# Altium footprint library PMIC.PcbLib: 52 footprints (part 3 of 4)
Each footprint in its own frame and in the unit in brackets; x right, y up, seen from the top. Pads: shape width x height; smd on the part's side, far side on the other; paste and mask are expansions set on the pad; w line width, h text height; cw(c..) or ccw(c..) is an arc to the next point about the centre after c.
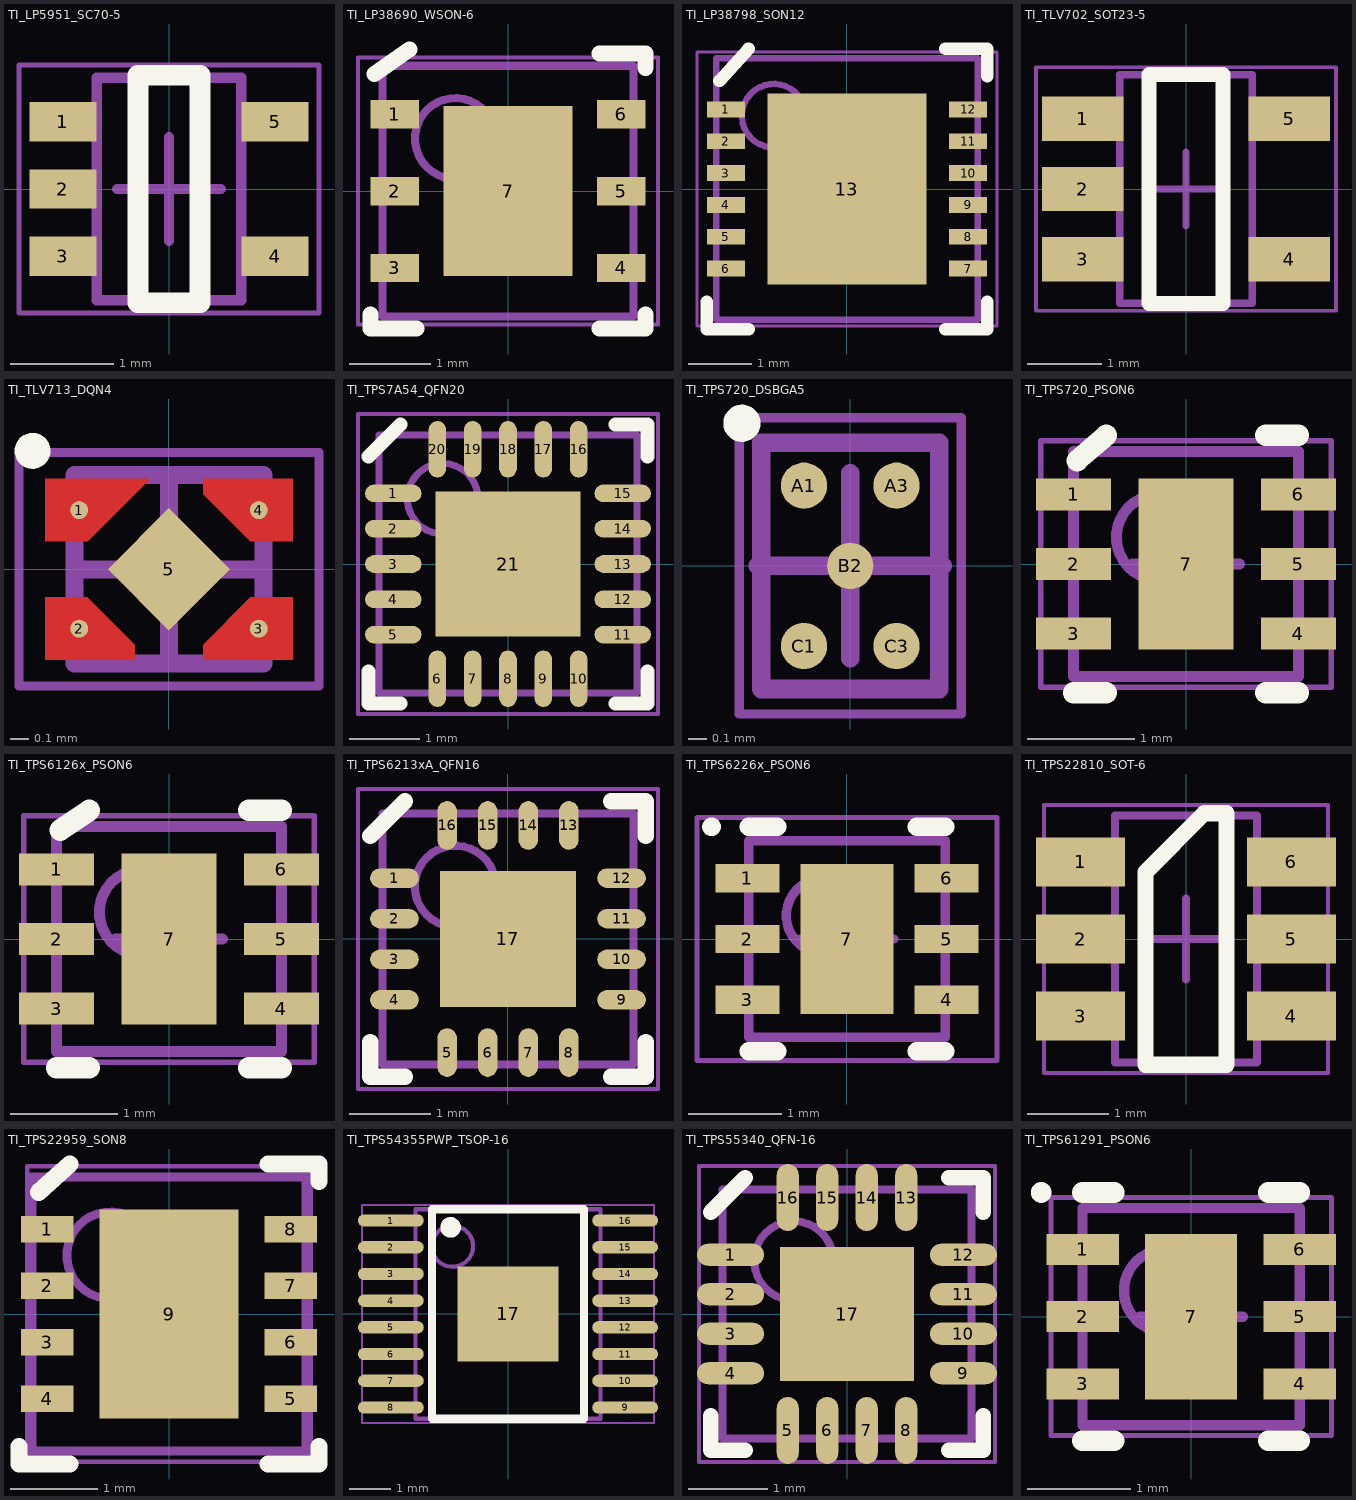
[diagram p2: the footprints below, top view; thin cyan lines are the x and y axes]

## TI_LP5951_SC70-5 [mm] "SOT23, 5-Leads, Body 2.00x2.10mm, Pitch 0.65mm, IPC High Density"
height 1.1
pads (5):
  rect 0.65x0.38 smd mask+0.05: 1(-1.025,0.65) 2(-1.025,0) 3(-1.025,-0.65) 4(1.025,-0.65) 5(1.025,0.65)
Top Overlay:
  lines w0.2: -0.3,-1.1 0.3,-1.1 0.3,1.1 -0.3,1.1 -0.3,-1.1
Mechanical 13:
  lines w0.1: -0.7,-1.075 -0.7,1.075 0.7,1.075 0.7,-1.075 -0.7,-1.075
Mechanical 15:
  lines w0.05: -1.45,-1.2 -1.45,1.2 1.45,1.2 1.45,-1.2 -1.45,-1.2
  lines w0.1: -0.5,0 0.5,0 ; 0,-0.5 0,0.5
3D body "TI_LP5951_SC70-5.step": height 1.1, standoff 0, extent -1.2,-1.075 1.2,1.075

## TI_LP38690_WSON-6 [mm] "SON, 6-Leads, Body 3.00x3.00mm, Pitch 0.95mm, Thermal Pad 2.10x1.60mm, IPC High Density"
height 0.8
pads (7):
  rect 0.6x0.35 smd mask+0.05: 1(-1.4,0.95) 2(-1.4,0) 3(-1.4,-0.95) 4(1.4,-0.95) 5(1.4,0) 6(1.4,0.95)
  rect 1.6x2.1 smd mask+0.05: 7(0,0)
Top Overlay:
  lines w0.2: -1.7,-1.525 -1.7,-1.7 -1.13,-1.7 ; -1.651,1.448 -1.219,1.753 ; 1.13,-1.7 1.7,-1.7 1.7,-1.525 ; 1.13,1.7 1.7,1.7 1.7,1.525
Mechanical 13:
  circle w0.1: c-0.65,0.65 r0.5
  lines w0.1: -1.55,-1.55 1.55,-1.55 1.55,1.55 -1.55,1.55 -1.55,-1.55
Mechanical 15:
  lines w0.05: -1.855,-1.65 1.855,-1.65 1.855,1.65 -1.855,1.65 -1.855,-1.65
  lines w0.1: -0.5,0 0.5,0 ; 0,-0.5 0,0.5
3D body "LP38690_WSON-6.step": height 0.8, standoff 0, extent -1.551,-1.55 1.551,1.55

## TI_LP38798_SON12 [mm] "SON, 12-Leads, Body 4.00x4.00mm, Pitch 0.50mm, Thermal Pad 3.00x2.49mm, IPC High Density"
height 1
pads (13):
  rect 0.6x0.25 smd mask+0.07: 1(-1.9,1.25) 2(-1.9,0.75) 3(-1.9,0.25) 4(-1.9,-0.25) 5(-1.9,-0.75) 6(-1.9,-1.25) 7(1.9,-1.25) 8(1.9,-0.75) 9(1.9,-0.25) 10(1.9,0.25) 11(1.9,0.75) 12(1.9,1.25)
  rect 2.49x3 smd paste-1.245 mask+0.07: 13(0,0)
Top Overlay:
  lines w0.2: -2.2,-1.775 -2.2,-2.2 -1.545,-2.2 ; -2,1.7 -1.545,2.2 ; 1.545,-2.2 2.2,-2.2 2.2,-1.775 ; 1.545,2.2 2.2,2.2 2.2,1.775
Top Paste:
  rectangle: 0.1,-1.4 1.15,-0.1
  rectangle: 0.1,0.1 1.15,1.4
  rectangle: -1.15,-1.4 -0.1,-0.1
  rectangle: -1.15,0.1 -0.1,1.4
Mechanical 13:
  circle w0.1: c-1.15,1.15 r0.5
  lines w0.1: -2.05,-2.05 2.05,-2.05 2.05,2.05 -2.05,2.05 -2.05,-2.05
Mechanical 15:
  lines w0.05: -2.355,-2.15 2.355,-2.15 2.355,2.15 -2.355,2.15 -2.355,-2.15
  lines w0.1: -0.5,0 0.5,0 ; 0,-0.5 0,0.5
3D body "TI_LP38798_SON12.step": height 1, standoff 0, extent -2.051,-2.05 2.051,2.05

## TI_TLV702_SOT23-5 [mm] "SOT23, 5-Leads, Body 2.90x2.70mm, Pitch 0.95mm, IPC High Density"
height 1.45
pads (5):
  rect 1.1x0.6 smd mask+0.08: 1(-1.4,0.95) 2(-1.4,0) 3(-1.4,-0.95) 4(1.4,-0.95) 5(1.4,0.95)
Top Overlay:
  lines w0.2: -0.5,-1.55 0.5,-1.55 0.5,1.55 -0.5,1.55 -0.5,-1.55
Mechanical 13:
  lines w0.1: -0.9,-1.55 -0.9,1.55 0.9,1.55 0.9,-1.55 -0.9,-1.55
Mechanical 15:
  lines w0.05: -2.032,-1.65 -2.032,1.65 2.032,1.65 2.032,-1.65 -2.032,-1.65
  lines w0.1: -0.5,0 0.5,0 ; 0,-0.5 0,0.5
3D body "Microchip_MCP6561_SOT23-5.step": height 1.45, standoff 0, extent -1.7,-1.55 1.7,1.55

## TI_TLV713_DQN4 [mm] "SON, 4-Leads, Body 1.00x1.00mm, Pitch 0.65mm, Thermal Pad 0.50x0.00mm, IPC High Density"
height 0.4
pads (5):
  round 0.1 smd mask+0: 1(-0.5,0.33) 2(-0.5,-0.33) 3(0.5,-0.33) 4(0.5,0.33)
  rect 0.483x0.483 smd rot 45 mask+0.013: 5(0,0)
Top Layer:
  region: 0.19,-0.504 0.19,-0.42 0.454,-0.156 0.69,-0.156 0.69,-0.504
  region: 0.19,0.504 0.19,0.42 0.454,0.156 0.69,0.156 0.69,0.504
  region: -0.19,-0.504 -0.19,-0.42 -0.454,-0.156 -0.69,-0.156 -0.69,-0.504
  region: -0.106,0.504 -0.454,0.156 -0.69,0.156 -0.69,0.504
Top Overlay:
  circle w0.1: c-0.76,0.66 r0.05
Mechanical 13:
  lines w0.1: -0.525,-0.525 -0.525,0.525 0.525,0.525 0.525,-0.525 -0.525,-0.525
Mechanical 15:
  lines w0.05: -0.835,-0.65 -0.835,0.65 0.835,0.65 0.835,-0.65 -0.835,-0.65
  lines w0.1: -0.5,0 0.5,0 ; 0,-0.5 0,0.5
3D body "TI_TLV713_DQN4.step": height 0.4, standoff 0, extent -0.526,-0.525 0.526,0.525

## TI_TPS7A54_QFN20 [mm] "QFN, 20-Leads, Body 3.50x3.50mm, Pitch 0.50mm, Thermal Pad 2.05x2.05mm, IPC High Density"
height 1
pads (21):
  oval 0.8x0.25 smd mask+0.05: 1(-1.625,1) 2(-1.625,0.5) 3(-1.625,0) 4(-1.625,-0.5) 5(-1.625,-1) 11(1.625,-1) 12(1.625,-0.5) 13(1.625,0) 14(1.625,0.5) 15(1.625,1)
  oval 0.25x0.8 smd mask+0.05: 6(-1,-1.625) 7(-0.5,-1.625) 8(0,-1.625) 9(0.5,-1.625) 10(1,-1.625) 16(1,1.625) 17(0.5,1.625) 18(0,1.625) 19(-0.5,1.625) 20(-1,1.625)
  rect 2.05x2.05 smd mask+0.05: 21(0,0)
Top Overlay:
  lines w0.2: -1.975,-1.525 -1.975,-1.975 -1.525,-1.975 ; -1.975,1.525 -1.525,1.975 ; 1.525,-1.975 1.975,-1.975 1.975,-1.525 ; 1.525,1.975 1.975,1.975 1.975,1.525
Mechanical 13:
  circle w0.1: c-0.925,0.925 r0.5
  lines w0.1: -1.825,-1.825 1.825,-1.825 1.825,1.825 -1.825,1.825 -1.825,-1.825
Mechanical 15:
  lines w0.05: -2.125,-2.125 2.125,-2.125 2.125,2.125 -2.125,2.125 -2.125,-2.125
  lines w0.1: -0.5,0 0.5,0 ; 0,-0.5 0,0.5
3D body "TI_TPS7A54_QFN20.step": height 1, standoff 0, extent -1.826,-1.826 1.826,1.826

## TI_TPS720_DSBGA5 [mm] "BGA, 5-Leads, Body 0.96x1.33mmx0.63mm, Pitch 0.50mm"
height 0.63
pads (5):
  round 0.25 smd mask+0.05: A1(-0.25,0.433) A3(0.25,0.433) B2(0,0) C1(-0.25,-0.433) C3(0.25,-0.433)
Top Overlay:
  circle w0.1: c-0.585,0.77 r0.05
Mechanical 13:
  lines w0.1: -0.48,-0.665 0.48,-0.665 0.48,0.665 -0.48,0.665 -0.48,-0.665
Mechanical 15:
  lines w0.05: -0.6,-0.8 0.6,-0.8 0.6,0.8 -0.6,0.8 -0.6,-0.8
  lines w0.1: -0.5,0 0.5,0 ; 0,-0.5 0,0.5
3D body "TI_TPS720_DSBGA5.step": height 0.63, standoff 0, extent -0.48,-0.665 0.48,0.665

## TI_TPS720_PSON6 [mm] "SON, 6-Leads, Body 2.00x2.00mm, Pitch 0.65mm, Thermal Pad 1.60x0.89mm, IPC High Density"
height 0.8
pads (7):
  rect 0.7x0.3 smd mask+0.05: 1(-1.05,0.65) 2(-1.05,0) 3(-1.05,-0.65) 4(1.05,-0.65) 5(1.05,0) 6(1.05,0.65)
  rect 0.89x1.6 smd mask+0.05: 7(0,0)
Top Overlay:
  lines w0.2: -1.05,-1.2 -0.745,-1.2 ; -1.016,0.965 -0.745,1.2 ; 0.745,-1.2 1.05,-1.2 ; 0.745,1.2 1.05,1.2
Mechanical 13:
  circle w0.1: c-0.25,0.25 r0.4
  lines w0.1: -1.05,-1.05 1.05,-1.05 1.05,1.05 -1.05,1.05 -1.05,-1.05
Mechanical 15:
  lines w0.05: -1.355,-1.15 1.355,-1.15 1.355,1.15 -1.355,1.15 -1.355,-1.15
  lines w0.1: -0.5,0 0.5,0 ; 0,-0.5 0,0.5
3D body "TI_TPS6126x_PSON6.step": height 0.8, standoff 0, extent -1.051,-1.05 1.051,1.05

## TI_TPS6126x_PSON6 [mm] "SON, 6-Leads, Body 2.00x2.00mm, Pitch 0.65mm, Thermal Pad 1.60x0.89mm, IPC High Density"
height 0.8
pads (7):
  rect 0.7x0.3 smd mask+0.05: 1(-1.05,0.65) 2(-1.05,0) 3(-1.05,-0.65) 4(1.05,-0.65) 5(1.05,0) 6(1.05,0.65)
  rect 0.89x1.6 smd mask+0.05: 7(0,0)
Top Overlay:
  lines w0.2: -1.05,-1.2 -0.745,-1.2 ; -1.016,1.016 -0.745,1.2 ; 0.745,-1.2 1.05,-1.2 ; 0.745,1.2 1.05,1.2
Mechanical 13:
  circle w0.1: c-0.25,0.25 r0.4
  lines w0.1: -1.05,-1.05 -1.05,1.05 1.05,1.05 1.05,-1.05 -1.05,-1.05
Mechanical 15:
  lines w0.05: -1.355,-1.15 -1.355,1.15 1.355,1.15 1.355,-1.15 -1.355,-1.15
  lines w0.1: -0.5,0 0.5,0 ; 0,-0.5 0,0.5
3D body "TI_TPS6126x_PSON6.step": height 0.8, standoff 0, extent -1.051,-1.05 1.051,1.05

## TI_TPS6213xA_QFN16 [mm] "QFN, 16-Leads, Body 3.00x3.00mm, Pitch 0.50mm, Thermal Pad 1.68x1.68mm, IPC High Density"
height 1
pads (17):
  oval 0.6x0.24 smd mask+0.07: 1(-1.4,0.75) 2(-1.4,0.25) 3(-1.4,-0.25) 4(-1.4,-0.75) 9(1.4,-0.75) 10(1.4,-0.25) 11(1.4,0.25) 12(1.4,0.75)
  oval 0.24x0.6 smd mask+0.07: 5(-0.75,-1.4) 6(-0.25,-1.4) 7(0.25,-1.4) 8(0.75,-1.4) 13(0.75,1.4) 14(0.25,1.4) 15(-0.25,1.4) 16(-0.75,1.4)
  rect 1.68x1.68 smd mask+0.07: 17(0,0)
Top Overlay:
  lines w0.2: -1.7,-1.27 -1.7,-1.7 -1.27,-1.7 ; -1.7,1.27 -1.27,1.7 ; 1.27,-1.7 1.7,-1.7 1.7,-1.27 ; 1.27,1.7 1.7,1.7 1.7,1.27
Mechanical 13:
  circle w0.1: c-0.65,0.65 r0.5
  lines w0.1: -1.55,-1.55 1.55,-1.55 1.55,1.55 -1.55,1.55 -1.55,-1.55
Mechanical 15:
  lines w0.05: -1.85,-1.85 1.85,-1.85 1.85,1.85 -1.85,1.85 -1.85,-1.85
  lines w0.1: -0.5,0 0.5,0 ; 0,-0.5 0,0.5
3D body: height 1, standoff 0, extent -1.55,-1.55 1.55,1.55

## TI_TPS6226x_PSON6 [mil] "SON, 6-Leads, Body 2.00x2.00mm, Pitch 0.65mm, Thermal Pad 1.60x0.89mm, IPC Medium Density"
height 31.5
pads (7):
  rect 27x11.81 smd mask+1.3: 1(-42,25.59) 2(-42,0) 3(-42,-25.59) 4(42,-25.59) 5(42,0) 6(42,25.59)
  rect 39x62.99 smd mask+1.3: 7(0,0)
Top Overlay:
  circle w3.94: c-57.09,47.24 r1.97
  lines w7.87: -41.34,-47.24 -29.33,-47.24 ; -41.34,47.24 -29.33,47.24 ; 29.33,-47.24 41.34,-47.24 ; 29.33,47.24 41.34,47.24
Mechanical 13:
  circle w3.94: c-9.84,9.84 r15.75
  lines w3.94: -41.34,-41.34 41.34,-41.34 41.34,41.34 -41.34,41.34 -41.34,-41.34
Mechanical 15:
  lines w1.97: -63.19,-51.18 63.19,-51.18 63.19,51.18 -63.19,51.18 -63.19,-51.18
  lines w3.94: -19.68,0 19.69,0 ; 0,-19.68 0,19.69
3D body "TI_TPS6226x_PSON6.step": height 31.5, standoff -0.04, extent -41.38,-41.34 41.38,41.34

## TI_TPS22810_SOT-6 [mm] "SOT23, 6-Leads, Body 2.90x2.80mm, Pitch 0.95mm, IPC High Density"
height 1.45
pads (6):
  rect 1.1x0.6 smd: 1(-1.3,0.95) 2(-1.3,0) 3(-1.3,-0.95) 4(1.3,-0.95) 5(1.3,0) 6(1.3,0.95)
Top Overlay:
  lines w0.2: -0.5,-1.55 -0.5,0.825 0.225,1.55 0.5,1.55 0.5,-1.55 -0.5,-1.55
Mechanical 13:
  lines w0.1: -0.875,-1.525 0.875,-1.525 0.875,1.525 -0.875,1.525 -0.875,-1.525
Mechanical 15:
  lines w0.05: -1.75,-1.65 1.75,-1.65 1.75,1.65 -1.75,1.65 -1.75,-1.65
  lines w0.1: -0.5,0 0.5,0 ; 0,-0.5 0,0.5
3D body "TI_TPS22810_SOT-6.step": height 1.45, standoff 0, extent -1.5,-1.525 1.5,1.525

## TI_TPS22959_SON8 [mm] "PSON, 8-Leads, Body 3.00x3.00mm, Pitch 0.65mm, Thermal Pad 2.40x1.60mm, IPC High Density"
height 0.8
pads (9):
  rect 0.6x0.3 smd mask+0.07: 1(-1.4,0.975) 2(-1.4,0.325) 3(-1.4,-0.325) 4(-1.4,-0.975) 5(1.4,-0.975) 6(1.4,-0.325) 7(1.4,0.325) 8(1.4,0.975)
  rect 1.6x2.4 smd mask+0.07: 9(0,0)
Top Overlay:
  lines w0.2: -1.725,-1.525 -1.725,-1.725 -1.14,-1.725 ; -1.5,1.4 -1.14,1.725 ; 1.14,-1.725 1.725,-1.725 1.725,-1.525 ; 1.14,1.725 1.725,1.725 1.725,1.525
Mechanical 13:
  circle w0.1: c-0.675,0.675 r0.5
  lines w0.1: -1.575,-1.575 1.575,-1.575 1.575,1.575 -1.575,1.575 -1.575,-1.575
Mechanical 15:
  lines w0.05: -1.63,-1.7 1.63,-1.7 1.63,1.7 -1.63,1.7 -1.63,-1.7
  lines w0.1: -0.5,0 0.5,0 ; 0,-0.5 0,0.5
3D body "TI_TPS22959_SON8.step": height 0.8, standoff 0, extent -1.576,-1.575 1.576,1.575

## TI_TPS54355PWP_TSOP-16 [mm] "TSOP, 16-Leads, Body 5.00x4.40mm, Pitch 0.65mm, Thermal Pad 2.31x2.46mm, IPC High Density"
height 1.2
pads (17):
  oval 1.6x0.3 smd: 1(-2.85,2.275) 2(-2.85,1.625) 3(-2.85,0.975) 4(-2.85,0.325) 5(-2.85,-0.325) 6(-2.85,-0.975) 7(-2.85,-1.625) 8(-2.85,-2.275) 9(2.85,-2.275) 10(2.85,-1.625) 11(2.85,-0.975) 12(2.85,-0.325) 13(2.85,0.325) 14(2.85,0.975) 15(2.85,1.625) 16(2.85,2.275)
  rect 2.46x2.31 smd: 17(0,0)
Top Overlay:
  circle w0.25: c-1.397,2.108 r0.125
  lines w0.2: -1.85,-2.55 -1.85,2.55 1.85,2.55 1.85,-2.55 -1.85,-2.55
Mechanical 13:
  circle w0.1: c-1.35,1.65 r0.5
  lines w0.1: -2.25,-2.55 -2.25,2.55 2.25,2.55 2.25,-2.55 -2.25,-2.55
Mechanical 15:
  lines w0.05: -3.55,-2.65 -3.55,2.65 3.55,2.65 3.55,-2.65 -3.55,-2.65
  lines w0.1: -0.5,0 0.5,0 ; 0,-0.5 0,0.5
3D body "TI_TPS54355PWP_TSOP-16.step": height 1.2, standoff 0, extent -3.2,-2.55 3.2,2.55

## TI_TPS55340_QFN-16 [mm] "QFN, 16-Leads, Body 3.00x3.00mm, Pitch 0.50mm, Thermal Pad 1.70x1.70mm, IPC High Density"
height 0.8
pads (17):
  oval 0.85x0.28 smd mask+0.05: 1(-1.475,0.75) 2(-1.475,0.25) 3(-1.475,-0.25) 4(-1.475,-0.75) 9(1.475,-0.75) 10(1.475,-0.25) 11(1.475,0.25) 12(1.475,0.75)
  oval 0.28x0.85 smd mask+0.05: 5(-0.75,-1.475) 6(-0.25,-1.475) 7(0.25,-1.475) 8(0.75,-1.475) 13(0.75,1.475) 14(0.25,1.475) 15(-0.25,1.475) 16(-0.75,1.475)
  rect 1.7x1.7 smd mask+0.05: 17(0,0)
Top Overlay:
  lines w0.2: -1.725,-1.29 -1.725,-1.725 -1.29,-1.725 ; -1.725,1.29 -1.29,1.725 ; 1.29,-1.725 1.725,-1.725 1.725,-1.29 ; 1.29,1.725 1.725,1.725 1.725,1.29
Mechanical 13:
  circle w0.1: c-0.675,0.675 r0.5
  lines w0.1: -1.575,-1.575 -1.575,1.575 1.575,1.575 1.575,-1.575 -1.575,-1.575
Mechanical 15:
  lines w0.05: -1.875,-1.875 -1.875,1.875 1.875,1.875 1.875,-1.875 -1.875,-1.875
  lines w0.1: -0.5,0 0.5,0 ; 0,-0.5 0,0.5
3D body "TI_TPS55340_QFN-16.step": height 0.8, standoff 0, extent -1.576,-1.576 1.576,1.576

## TI_TPS61291_PSON6 [mm] "SON, 6-Leads, Body 2.00x2.00mm, Pitch 0.65mm, Thermal Pad 1.60x0.89mm, IPC High Density"
height 0.8
pads (7):
  rect 0.7x0.3 smd mask+0.05: 1(-1.05,0.65) 2(-1.05,0) 3(-1.05,-0.65) 4(1.05,-0.65) 5(1.05,0) 6(1.05,0.65)
  rect 0.89x1.6 smd mask+0.05: 7(0,0)
Top Overlay:
  circle w0.1: c-1.45,1.2 r0.05
  lines w0.2: -1.05,-1.2 -0.745,-1.2 ; -1.05,1.2 -0.745,1.2 ; 0.745,-1.2 1.05,-1.2 ; 0.745,1.2 1.05,1.2
Mechanical 13:
  circle w0.1: c-0.25,0.25 r0.4
  lines w0.1: -1.05,-1.05 -1.05,1.05 1.05,1.05 1.05,-1.05 -1.05,-1.05
Mechanical 15:
  lines w0.05: -1.355,-1.15 -1.355,1.15 1.355,1.15 1.355,-1.15 -1.355,-1.15
  lines w0.1: -0.5,0 0.5,0 ; 0,-0.5 0,0.5
3D body "TI_TPS6126x_PSON6.step": height 0.8, standoff 0, extent -1.051,-1.05 1.051,1.05